# EAGLE library part SI4825-A10-CS (library SI4825-A10-CS)
RF Receiver AM/FM/SW RX,16p SOIC Source: Datasheet <https://www.silabs.com/documents/public/data-sheets/Si4825-A10.pdf>
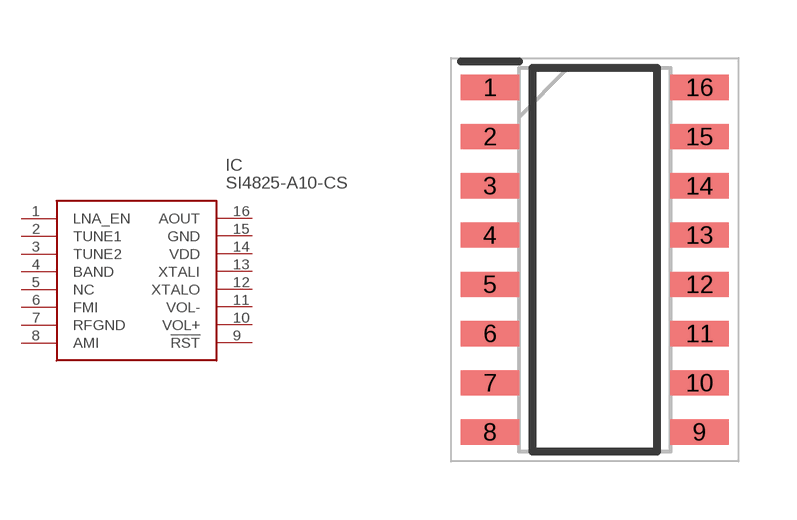
[diagram p0: symbol with the pads of SOIC127P600X175-16N; footprint SOIC127P600X175-16N]

Designator prefix IC

## SI4825-A10-CS (Arrow_Part_Number: SI4825-A10-CS; Arrow_Price-Stock: https://www.arrow.com/en/products/si4825-a10-cs/silicon-labs; Description: RF Receiver AM/FM/SW RX,16p SOIC; Height: 1.75mm; Manufacturer_Name: Silicon Labs; Manufacturer_Part_Number: SI4825-A10-CS; Mouser_Part_Number: 634-SI4825-A10-CS; Mouser_Price-Stock: https://www.mouser.co.uk/ProductDetail/Silicon-Labs/SI4825-A10-CS?qs=p9T7GgSe1IGhRek9%252BbvfHA%3D%3D)  [SOIC127P600X175-16N]
1  LNA_EN
2  TUNE1
3  TUNE2
4  BAND
5  NC  nc
6  FMI
7  RFGND
8  AMI
9  !RST
10  VOL+
11  VOL-
12  XTALO
13  XTALI
14  VDD
15  GND
16  AOUT

## Footprint SOIC127P600X175-16N (pad centres in mm)
16-Pin Narrow-Body SOIC
smd 1.5 x 0.65: 1 -2.7,4.445; 2 -2.7,3.175; 3 -2.7,1.905; 4 -2.7,0.635; 5 -2.7,-0.635; 6 -2.7,-1.905; 7 -2.7,-3.175; 8 -2.7,-4.445; 9 2.7,-4.445; 10 2.7,-3.175; 11 2.7,-1.905; 12 2.7,-0.635; 13 2.7,0.635; 14 2.7,1.905; 15 2.7,3.175; 16 2.7,4.445